# Altium footprint library MEM2051-00-195-00-A.PcbLib: 1 footprints
Each footprint in its own frame and in the unit in brackets; x right, y up, seen from the top. Pads: shape width x height; smd on the part's side, far side on the other; paste and mask are expansions set on the pad; w line width, h text height; cw(c..) or ccw(c..) is an arc to the next point about the centre after c.
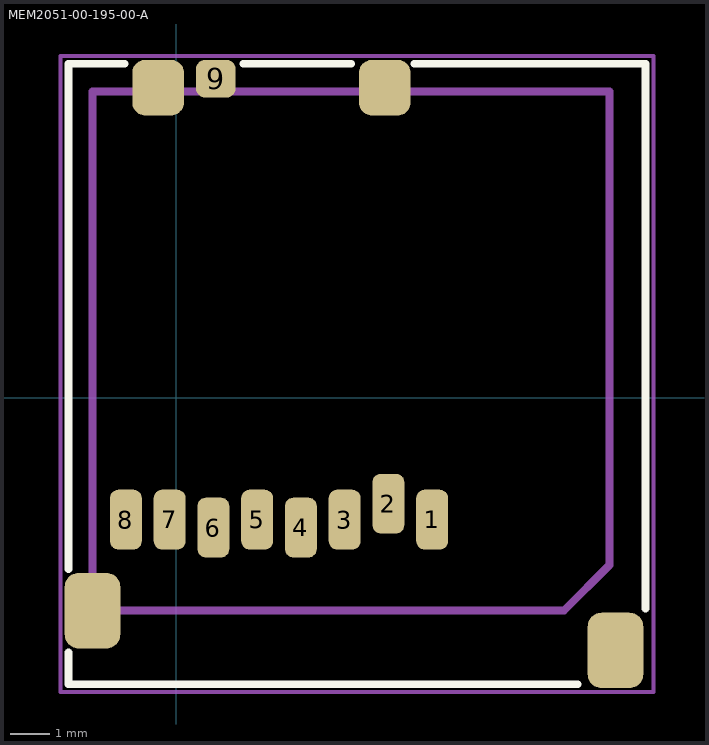
[diagram p0: the footprint, top view; thin cyan lines are the x and y axes]

## MEM2051-00-195-00-A [mm]
pads (13):
  rrect50% 0.8x1.5 smd mask+0: 1(6.44,-3.06) 2(5.34,-2.66) 3(4.24,-3.06) 4(3.14,-3.26) 5(2.04,-3.06) 6(0.94,-3.26) 7(-0.16,-3.06) 8(-1.26,-3.06)
  rrect50% 1x0.95 smd mask+0: 9(1,8.025)
  rrect50% 1.4x1.9 smd mask+0: ""(-2.1,-5.35) ""(11.05,-6.35)
  rrect50% 1.3x1.4 smd mask+0: ""(-0.45,7.8) ""(5.25,7.8)
Top Overlay:
  lines w0.2: -2.7,-6.4 -2.7,-7.2 10.1,-7.2 ; -2.7,-4.3 -2.7,8.4 -1.3,8.4 ; 1.7,8.4 4.4,8.4 ; 6,8.4 11.8,8.4 11.8,-5.3
Mechanical 3:
  lines w0.2: -2.1,-5.35 -2.1,7.7 10.9,7.7 10.9,-4.2 9.75,-5.35 -2.1,-5.35
Mechanical 7:
  lines w0.1: -2.9,-7.4 8.2,-7.4 12,-7.4 12,8.6 -2.9,8.6 -2.9,-7.4
Mechanical 9:
  text "'.Designator'" at -0.973,2.375 h1.02
3D body "MEM2051-00-195-00-A.stp": height 1.91, standoff 0.01, extent -2.55,-7.1 11.55,8.25
3D body: height 1.95, standoff 0, extent -2.9,-7.4 12,8.6